# Altium footprint library ESP32-Relay-Module.PcbLib: 41 footprints (part 3 of 3)
Each footprint in its own frame and in the unit in brackets; x right, y up, seen from the top. Pads: shape width x height; smd on the part's side, far side on the other; paste and mask are expansions set on the pad; w line width, h text height; cw(c..) or ccw(c..) is an arc to the next point about the centre after c.
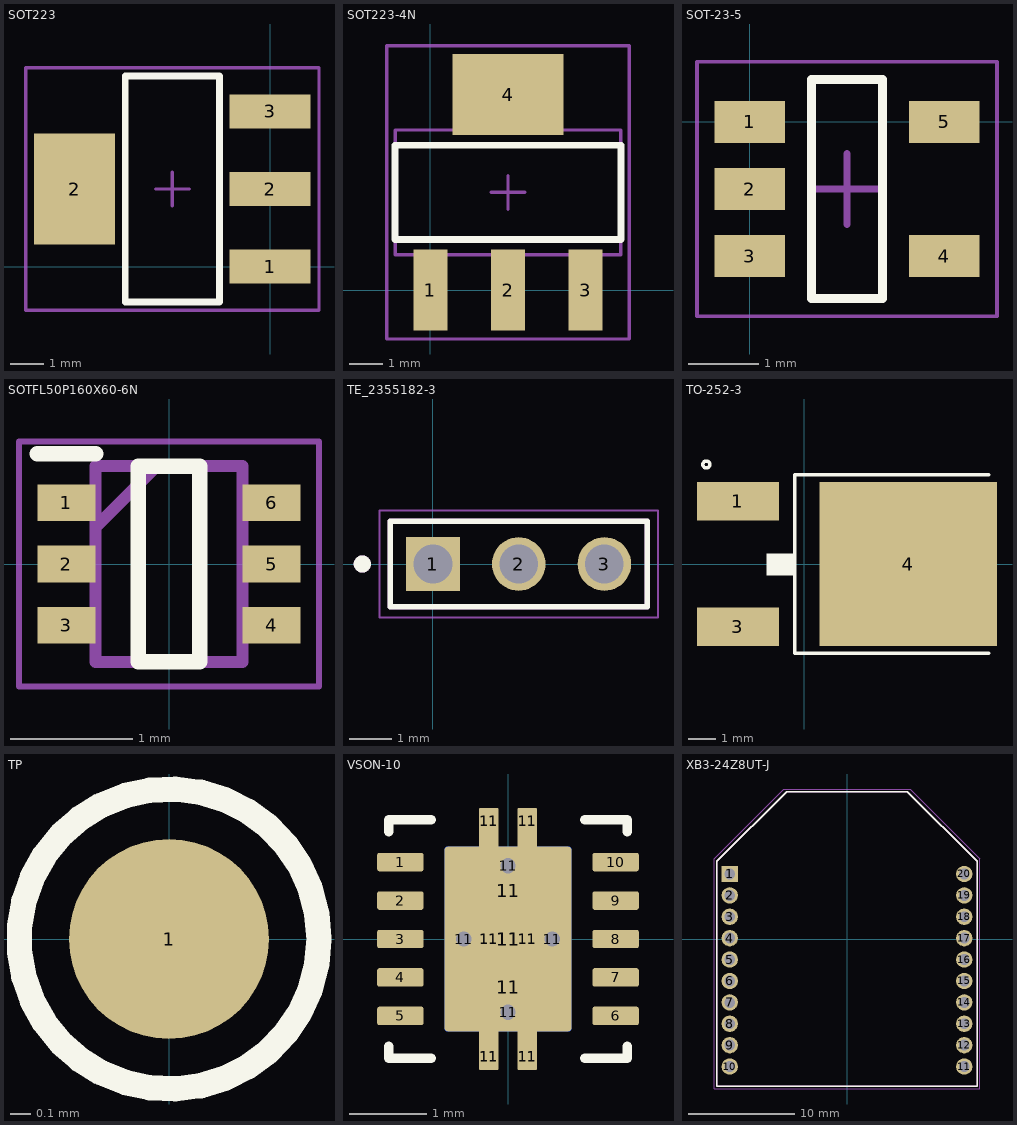
[diagram p2: the footprints below, top view; thin cyan lines are the x and y axes]

## SOT223 [mm]
pads (4):
  rect 2.4x1 smd: 1(0,0) 2(0,2.3) 3(0,4.6)
  rect 2.4x3.3 smd: 2(-5.8,2.3)
Top Overlay:
  lines w0.2: -4.3,-1.05 -4.3,5.65 -1.5,5.65 -1.5,-1.05 -4.3,-1.05
Mechanical 15:
  lines w0.1: -3.4,2.3 -2.4,2.3 ; -2.9,1.8 -2.9,2.8 ; -7.25,-1.3 -7.25,5.9 1.45,5.9 1.45,-1.3 -7.25,-1.3
3D body "STN715.STEP": height 1.86, standoff 0, extent -6.527,-0.898 0.473,5.602

## SOT223-4N [mm] "SOT223, 4-Leads, Body 6.5x3.5mm, Pitch 2.3mm, Lead Span 7mm, IPC Medium Density"
height 1.8
pads (4):
  rect 1x2.4 smd: 1(0,0) 2(2.3,0) 3(4.6,0)
  rect 3.3x2.4 smd: 4(2.3,5.8)
Top Overlay:
  lines w0.2: -1.05,1.5 -1.05,4.3 5.65,4.3 5.65,1.5 -1.05,1.5
Mechanical 13:
  lines w0.1: -1.05,1.05 -1.05,4.75 5.65,4.75 5.65,1.05 -1.05,1.05
Mechanical 15:
  lines w0.1: 1.8,2.9 2.8,2.9 ; 2.3,2.4 2.3,3.4 ; -1.3,-1.45 -1.3,7.25 5.9,7.25 5.9,-1.45 -1.3,-1.45
3D body: height 1.8, standoff 0, extent -1.05,1.05 5.65,4.75

## SOT-23-5 [mm] "SOT23, 6-Leads, Body 2,90x2,80mm, Pitch 0,95mm, IPC Medium Density"
height 1
pads (5):
  rect 1x0.6 smd: 1(0,0) 2(0,-0.95) 3(0,-1.9) 4(2.75,-1.9) 5(2.75,0)
Top Overlay:
  lines w0.127: 0.875,-2.5 0.875,0.6 1.875,0.6 1.875,-2.5 0.875,-2.5
Mechanical 15:
  lines w0.05: -0.75,-2.75 3.5,-2.75 3.5,0.85 -0.75,0.85 -0.75,-2.75
  lines w0.1: 0.875,-0.95 1.875,-0.95 ; 1.375,-1.45 1.375,-0.45
3D body "SOT-23-5.STEP": height 1.46, standoff 0, extent -0.125,-2.45 2.875,0.55

## SOTFL50P160X60-6N [mm]
pads (6):
  rect 0.475x0.3 smd: 1(-0.838,0.5) 2(-0.838,0) 3(-0.838,-0.5) 4(0.838,-0.5) 5(0.838,0) 6(0.838,0.5)
Top Overlay:
  lines w0.127: -1.075,0.9 -0.6,0.9 ; -0.25,-0.8 0.25,-0.8 0.25,0.8 -0.25,0.8 -0.25,-0.8
Mechanical 13:
  lines w0.1: -0.6,0.3 -0.1,0.8 ; -0.6,-0.8 0.6,-0.8 0.6,0.8 -0.6,0.8 -0.6,-0.8
Mechanical 15:
  lines w0.05: -1.225,-1 1.225,-1 1.225,1 -1.225,1 -1.225,-1
3D body "USBLC6-2P6.stp": height 0.6, standoff 0, extent -0.8,-0.8 0.8,0.8

## TE_2355182-3 [mm]
pads (3):
  rect 1.25x1.25 hole 0.9: 1(0,0)
  round 1.25 hole 0.9: 2(2,0) 3(4,0)
Top Overlay:
  circle w0.2: c-1.65,0 r0.1
  lines w0.127: -1,-1 5,-1 5,1 -1,1 -1,-1
Mechanical 13:
  circle w0.2: c-1.65,0 r0.1
  lines w0.127: -1,-1 5,-1 ; -1,-1 5,-1 ; -1,-1 -1,1 5,1 5,-1
Mechanical 15:
  lines w0.05: -1.25,-1.25 5.25,-1.25 5.25,1.25 -1.25,1.25 -1.25,-1.25
3D body "2355182-3--3DModel-STEP-1.STEP": height 4, standoff -4.3, extent -1,-1 5,1

## TO-252-3 [mm]
pads (3):
  rect 3x1.4 smd: 1(-2.44,2.3) 3(-2.44,-2.3)
  rect 6.5x6 smd: 4(3.81,0)
Top Overlay:
  circle w0.127: c-3.6,3.65 r0.127
  region: -1.384,0.381 -0.4,0.381 -0.4,-0.417 -1.384,-0.417
  lines w0.127: 6.763,-3.277 -0.349,-3.277 -0.349,3.277 6.763,3.277
3D body "User Library-TO-252-3.STEP": height 2.41, standoff 0, extent -3.589,-3.368 6.763,3.332

## TP [mm]
pads (1):
  round 1 smd paste-2 mask+0.1: 1(0,0)
Top Overlay:
  circle w0.127: c0,0 r0.75

## VSON-10 [mm]
pads (24):
  rrect20% 0.6x0.24 smd mask+0.07: 1(-1.4,1) 2(-1.4,0.5) 3(-1.4,0) 4(-1.4,-0.5) 5(-1.4,-1) 6(1.4,-1) 7(1.4,-0.5) 8(1.4,0) 9(1.4,0.5) 10(1.4,1)
  round 0.3 hole 0.2 mask+0.07: 11(-0.575,0) 11(0,-0.95) 11(0,0.95) 11(0.575,0)
  rrect5% 0.25x0.34 on Top Paste mask+0.07: 11(-0.25,-1.53) 11(-0.25,1.53) 11(0.25,-1.53) 11(0.25,1.53)
  rrect5% 0.25x3.4 smd paste-5 mask+0.07: 11(-0.25,0) 11(0.25,0)
  rrect5% 1.5x1.06 on Top Paste mask+0.07: 11(0,-0.63) 11(0,0.63)
  rrect5% 1.65x2.4 smd paste-5 mask+0.07: 11(0,0)
  rrect5% 1.65x2.4 smd far side paste-5 mask+0.07: 11(0,0)
Top Overlay:
  lines w0.127: -1.55,-1.396 -1.55,-1.55 -1,-1.55 ; -1.55,1.396 -1.55,1.55 -1,1.55 ; 1,-1.55 1.55,-1.55 1.55,-1.396 ; 1,1.55 1.55,1.55 1.55,1.396
3D body "User Library-PVSON-10-1.step": height 0.9, standoff 0, extent -1.501,-1.501 1.501,1.501

## XB3-24Z8UT-J [mm]
pads (20):
  rect 1.53x1.53 hole 1.02: 1(-10.998,6.096)
  round 1.53 hole 1.02: 2(-10.998,4.089) 3(-10.998,2.083) 4(-10.998,0.076) 5(-10.998,-1.93) 6(-10.998,-3.937) 7(-10.998,-5.944) 8(-10.998,-7.95) 9(-10.998,-9.957) 10(-10.998,-11.963) 11(10.998,-11.963) 12(10.998,-9.957) 13(10.998,-7.95) 14(10.998,-5.944) 15(10.998,-3.937) 16(10.998,-1.93) 17(10.998,0.076) 18(10.998,2.083) 19(10.998,4.089) 20(10.998,6.096)
Top Overlay:
  lines w0.127: -12.192,-13.818 12.192,-13.818 12.192,7.29 5.664,13.818 -5.664,13.818 -12.192,7.29 -12.192,-13.818
Mechanical 13:
  lines w0.127: -12.192,-13.818 -12.192,7.29 -5.664,13.818 5.664,13.818 12.192,7.29 12.192,-13.818 -12.192,-13.818
Mechanical 15:
  lines w0.05: -12.442,-14.068 -12.442,7.544 -5.918,14.068 5.918,14.068 12.442,7.544 12.442,-14.068 -12.442,-14.068
3D body "c-1-2314878-0-5-3d.stp": height 4.7, standoff -2.4, extent 9.98,-12.921 12.04,7.079
3D body "c-1-2314878-0-5-3d.stp": height 4.5, standoff -2.6, extent -11.952,-13.048 -9.892,6.952
3D body "XB3-24Z8PT-J--3DModel-STEP-56544.STEP": height 8.15, standoff 0.5, extent -12.065,-13.906 12.319,13.729